# Altium integrated library King Billion Devices.IntLib: 5 symbols
Pins are listed as number, name and electrical type; pins without a type are passive.

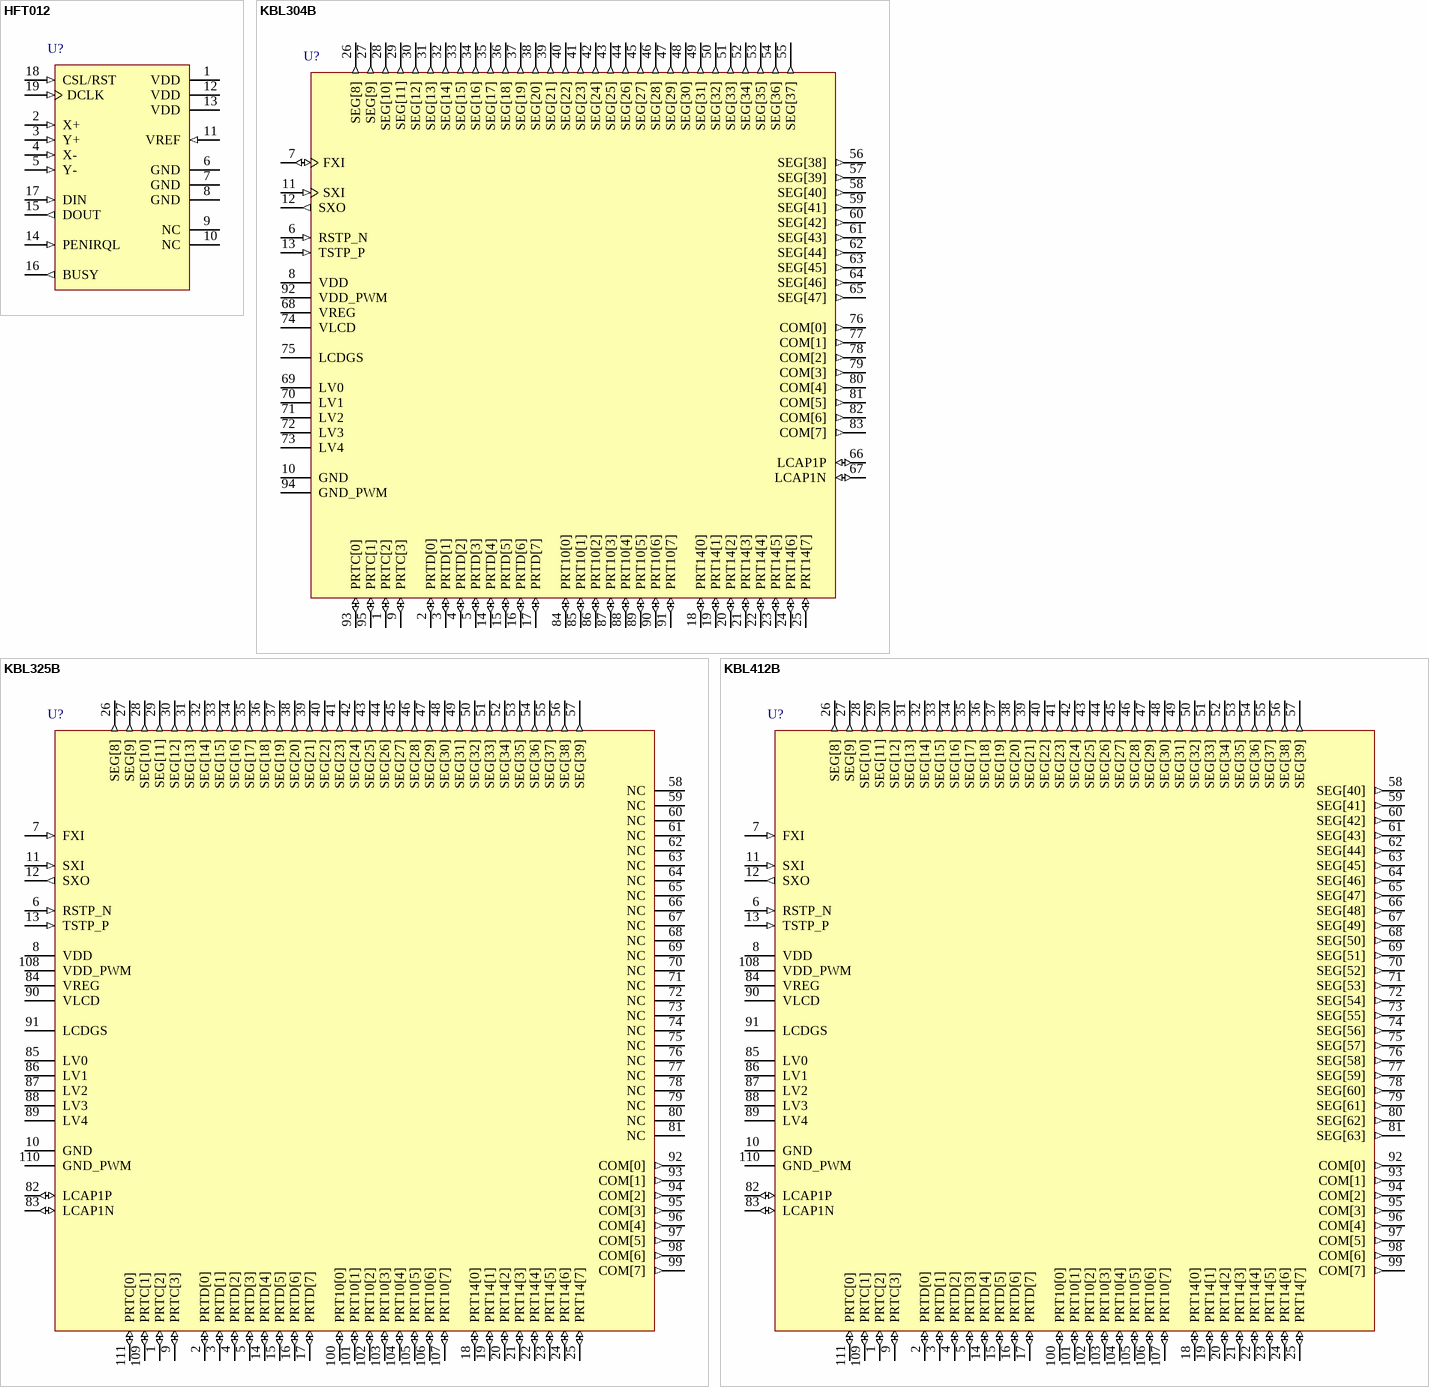
[diagram p0: symbols HFT012 to KBL412B]

## HFT012
designator U?
125KHz 1-Channel 4-Wire Touch Screen ADC, 2.4V - 5.5V range, 125KSPS Sampling Rate, Chip Form; PackageForm: Supplied as a Die.; Published: 30-Mar-2007; DatasheetVersion: Ver1.0, Aug-2003; PackageReference: Chip_Form; Publisher: Altium Limited; ComponentLink1Description: Manufacturer Link; ComponentLink1URL: http://www.kingb.com.tw/
pins: 1 VDD (power), 2 X+ (in), 3 Y+ (in), 4 X- (in), 5 Y- (in), 6 GND (power), 7 GND (power), 8 GND (power), 9 NC, 10 NC, 11 VREF (in), 12 VDD (power), 13 VDD (power), 14 PENIRQL (in), 15 DOUT (out), 16 BUSY (out), 17 DIN (in), 18 CSL/RST (in), 19 DCLK (in)

## KBL304B
designator U?
8-Bit CMOS Single Chip LCD MCU, 640 LCD Dots, Programmable LCD driver, Chip Form; PackageForm: Supplied as a Die.; Published: 30-Mar-2007; DatasheetVersion: Ver0.22, Dec-2005; PackageReference: Chip_Form; Publisher: Altium Limited; ComponentLink1Description: Manufacturer Link; ComponentLink1URL: http://www.kingb.com.tw/
pins: 1 PRTC[2] (io), 2 PRTD[0] (io), 3 PRTD[1] (io), 4 PRTD[2] (io), 5 PRTD[3] (io), 6 RSTP_N (in), 7 FXI (io), 8 VDD (power), 9 PRTC[3] (io), 10 GND (power), 11 SXI (in), 12 SXO (out), 13 TSTP_P (in), 14 PRTD[4] (io), 15 PRTD[5] (io), 16 PRTD[6] (io), 17 PRTD[7] (io), 18 PRT14[0] (io), 19 PRT14[1] (io), 20 PRT14[2] (io), 21 PRT14[3] (io), 22 PRT14[4] (io), 23 PRT14[5] (io), 24 PRT14[6] (io), 25 PRT14[7] (io), 26 SEG[8] (out), 27 SEG[9] (out), 28 SEG[10] (out), 29 SEG[11] (out), 30 SEG[12] (out), 31 SEG[13] (out), 32 SEG[14] (out), 33 SEG[15] (out), 34 SEG[16] (out), 35 SEG[17] (out), 36 SEG[18] (out), 37 SEG[19] (out), 38 SEG[20] (out), 39 SEG[21] (out), 40 SEG[22] (out), 41 SEG[23] (out), 42 SEG[24] (out), 43 SEG[25] (out), 44 SEG[26] (out), 45 SEG[27] (out), 46 SEG[28] (out), 47 SEG[29] (out), 48 SEG[30] (out), 49 SEG[31] (out), 50 SEG[32] (out), 51 SEG[33] (out), 52 SEG[34] (out), 53 SEG[35] (out), 54 SEG[36] (out), 55 SEG[37] (out), 56 SEG[38] (out), 57 SEG[39] (out), 58 SEG[40] (out), 59 SEG[41] (out), 60 SEG[42] (out), 61 SEG[43] (out), 62 SEG[44] (out), 63 SEG[45] (out), 64 SEG[46] (out), 65 SEG[47] (out), 66 LCAP1P (io), 67 LCAP1N (io), 68 VREG (power), 69 LV0 (power), 70 LV1 (power), 71 LV2 (power), 72 LV3 (power), 73 LV4 (power), 74 VLCD (power), 75 LCDGS (power), 76 COM[0] (out), 77 COM[1] (out), 78 COM[2] (out), 79 COM[3] (out), 80 COM[4] (out), 81 COM[5] (out), 82 COM[6] (out), 83 COM[7] (out), 84 PRT10[0] (io), 85 PRT10[1] (io), 86 PRT10[2] (io), 87 PRT10[3] (io), 88 PRT10[4] (io), 89 PRT10[5] (io), 90 PRT10[6] (io), 91 PRT10[7] (io), 92 VDD_PWM (power), 93 PRTC[0] (io), 94 GND_PWM (power), 95 PRTC[1] (io)

## KBL325B
designator U?
8-Bit CMOS Single Chip LCD MCU, 640 LCD Dots, Programmable LCD driver, Chip Form; PackageForm: Supplied as a Die.; Published: 30-Mar-2007; DatasheetVersion: Ver0.21, Dec-2005; PackageReference: Chip_Form; Publisher: Altium Limited; ComponentLink1Description: Manufacturer Link; ComponentLink1URL: http://www.kingb.com.tw/
pins: 1 PRTC[2] (io), 2 PRTD[0] (io), 3 PRTD[1] (io), 4 PRTD[2] (io), 5 PRTD[3] (io), 6 RSTP_N (in), 7 FXI (in), 8 VDD (power), 9 PRTC[3] (io), 10 GND (power), 11 SXI (in), 12 SXO (out), 13 TSTP_P (in), 14 PRTD[4] (io), 15 PRTD[5] (io), 16 PRTD[6] (io), 17 PRTD[7] (io), 18 PRT14[0] (io), 19 PRT14[1] (io), 20 PRT14[2] (io), 21 PRT14[3] (io), 22 PRT14[4] (io), 23 PRT14[5] (io), 24 PRT14[6] (io), 25 PRT14[7] (io), 26 SEG[8] (out), 27 SEG[9] (out), 28 SEG[10] (out), 29 SEG[11] (out), 30 SEG[12] (out), 31 SEG[13] (out), 32 SEG[14] (out), 33 SEG[15] (out), 34 SEG[16] (out), 35 SEG[17] (out), 36 SEG[18] (out), 37 SEG[19] (out), 38 SEG[20] (out), 39 SEG[21] (out), 40 SEG[22] (out), 41 SEG[23] (out), 42 SEG[24] (out), 43 SEG[25] (out), 44 SEG[26] (out), 45 SEG[27] (out), 46 SEG[28] (out), 47 SEG[29] (out), 48 SEG[30] (out), 49 SEG[31] (out), 50 SEG[32] (out), 51 SEG[33] (out), 52 SEG[34] (out), 53 SEG[35] (out), 54 SEG[36] (out), 55 SEG[37] (out), 56 SEG[38] (out), 57 SEG[39] (out), 58 NC, 59 NC, 60 NC, 61 NC, 62 NC, 63 NC, 64 NC, 65 NC, 66 NC, 67 NC, 68 NC, 69 NC, 70 NC, 71 NC, 72 NC, 73 NC, 74 NC, 75 NC, 76 NC, 77 NC, 78 NC, 79 NC, 80 NC, 81 NC, 82 LCAP1P (io), 83 LCAP1N (io), 84 VREG (power), 85 LV0 (power), 86 LV1 (power), 87 LV2 (power), 88 LV3 (power), 89 LV4 (power), 90 VLCD (power), 91 LCDGS (power), 92 COM[0] (out), 93 COM[1] (out), 94 COM[2] (out), 95 COM[3] (out), 96 COM[4] (out), 97 COM[5] (out), 98 COM[6] (out), 99 COM[7] (out), 100 PRT10[0] (io), 101 PRT10[1] (io), 102 PRT10[2] (io), 103 PRT10[3] (io), 104 PRT10[4] (io), 105 PRT10[5] (io), 106 PRT10[6] (io), 107 PRT10[7] (io), 108 VDD_PWM (power), 109 PRTC[1] (io), 110 GND_PWM (power), 111 PRTC[0] (io)

## KBL412B
designator U?
8-Bit CMOS Single Chip LCD MCU, 1024 LCD Dots, Programmable LCD driver, Chip Form; PackageForm: Supplied as a Die.; Published: 30-Mar-2007; DatasheetVersion: Ver0.21, Dec-2005; PackageReference: Chip_Form; Publisher: Altium Limited; ComponentLink1Description: Manufacturer Link; ComponentLink1URL: http://www.kingb.com.tw/
pins: 1 PRTC[2] (io), 2 PRTD[0] (io), 3 PRTD[1] (io), 4 PRTD[2] (io), 5 PRTD[3] (io), 6 RSTP_N (in), 7 FXI (in), 8 VDD (power), 9 PRTC[3] (io), 10 GND (power), 11 SXI (in), 12 SXO (out), 13 TSTP_P (in), 14 PRTD[4] (io), 15 PRTD[5] (io), 16 PRTD[6] (io), 17 PRTD[7] (io), 18 PRT14[0] (io), 19 PRT14[1] (io), 20 PRT14[2] (io), 21 PRT14[3] (io), 22 PRT14[4] (io), 23 PRT14[5] (io), 24 PRT14[6] (io), 25 PRT14[7] (io), 26 SEG[8] (out), 27 SEG[9] (out), 28 SEG[10] (out), 29 SEG[11] (out), 30 SEG[12] (out), 31 SEG[13] (out), 32 SEG[14] (out), 33 SEG[15] (out), 34 SEG[16] (out), 35 SEG[17] (out), 36 SEG[18] (out), 37 SEG[19] (out), 38 SEG[20] (out), 39 SEG[21] (out), 40 SEG[22] (out), 41 SEG[23] (out), 42 SEG[24] (out), 43 SEG[25] (out), 44 SEG[26] (out), 45 SEG[27] (out), 46 SEG[28] (out), 47 SEG[29] (out), 48 SEG[30] (out), 49 SEG[31] (out), 50 SEG[32] (out), 51 SEG[33] (out), 52 SEG[34] (out), 53 SEG[35] (out), 54 SEG[36] (out), 55 SEG[37] (out), 56 SEG[38] (out), 57 SEG[39] (out), 58 SEG[40] (out), 59 SEG[41] (out), 60 SEG[42] (out), 61 SEG[43] (out), 62 SEG[44] (out), 63 SEG[45] (out), 64 SEG[46] (out), 65 SEG[47] (out), 66 SEG[48] (out), 67 SEG[49] (out), 68 SEG[50] (out), 69 SEG[51] (out), 70 SEG[52] (out), 71 SEG[53] (out), 72 SEG[54] (out), 73 SEG[55] (out), 74 SEG[56] (out), 75 SEG[57] (out), 76 SEG[58] (out), 77 SEG[59] (out), 78 SEG[60] (out), 79 SEG[61] (out), 80 SEG[62] (out), 81 SEG[63] (out), 82 LCAP1P (io), 83 LCAP1N (io), 84 VREG (power), 85 LV0 (power), 86 LV1 (power), 87 LV2 (power), 88 LV3 (power), 89 LV4 (power), 90 VLCD (power), 91 LCDGS (power), 92 COM[0] (out), 93 COM[1] (out), 94 COM[2] (out), 95 COM[3] (out), 96 COM[4] (out), 97 COM[5] (out), 98 COM[6] (out), 99 COM[7] (out), 100 PRT10[0] (io), 101 PRT10[1] (io), 102 PRT10[2] (io), 103 PRT10[3] (io), 104 PRT10[4] (io), 105 PRT10[5] (io), 106 PRT10[6] (io), 107 PRT10[7] (io), 108 VDD_PWM (power), 109 PRTC[1] (io), 110 GND_PWM (power), 111 PRTC[0] (io)

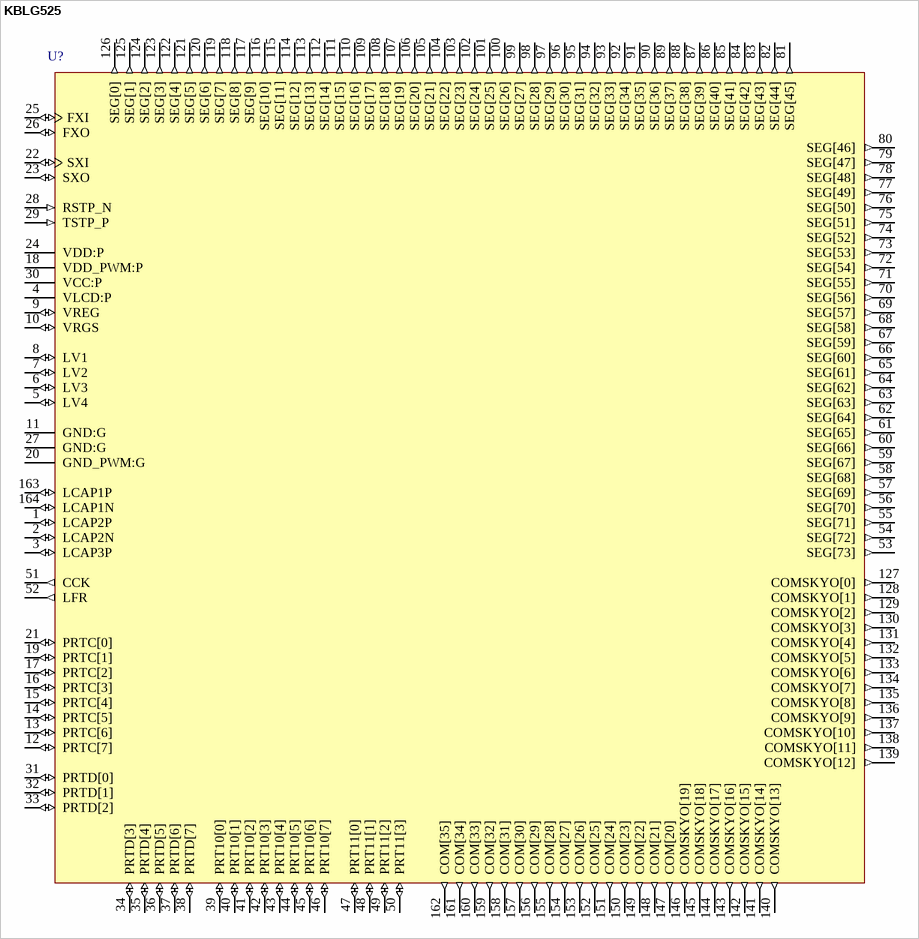
[diagram p1: symbol KBLG525]

## KBLG525
designator U?
8-Bit RISC Type LCD MCU, 2664 LCD Dots, Programmable 4 level gray-scale LCD driver, Chip Form; PackageForm: Supplied as a Die.; Published: 30-Mar-2007; DatasheetVersion: Ver0.40, Sep-2005; PackageReference: Chip_Form; Publisher: Altium Limited; ComponentLink1Description: Manufacturer Link; ComponentLink1URL: http://www.kingb.com.tw/
pins: 1 LCAP2P (io), 2 LCAP2N (io), 3 LCAP3P (io), 4 VLCD:P (power), 5 LV4 (io), 6 LV3 (io), 7 LV2 (io), 8 LV1 (io), 9 VREG (io), 10 VRGS (io), 11 GND:G (power), 12 PRTC[7] (io), 13 PRTC[6] (io), 14 PRTC[5] (io), 15 PRTC[4] (io), 16 PRTC[3] (io), 17 PRTC[2] (io), 18 VDD_PWM:P (power), 19 PRTC[1] (io), 20 GND_PWM:G (power), 21 PRTC[0] (io), 22 SXI (io), 23 SXO (io), 24 VDD:P (power), 25 FXI (io), 26 FXO (io), 27 GND:G (power), 28 RSTP_N (in), 29 TSTP_P (in), 30 VCC:P (power), 31 PRTD[0] (io), 32 PRTD[1] (io), 33 PRTD[2] (io), 34 PRTD[3] (io), 35 PRTD[4] (io), 36 PRTD[5] (io), 37 PRTD[6] (io), 38 PRTD[7] (io), 39 PRT10[0] (io), 40 PRT10[1] (io), 41 PRT10[2] (io), 42 PRT10[3] (io), 43 PRT10[4] (io), 44 PRT10[5] (io), 45 PRT10[6] (io), 46 PRT10[7] (io), 47 PRT11[0] (io), 48 PRT11[1] (io), 49 PRT11[2] (io), 50 PRT11[3] (io), 51 CCK (out), 52 LFR (out), 53 SEG[73] (out), 54 SEG[72] (out), 55 SEG[71] (out), 56 SEG[70] (out), 57 SEG[69] (out), 58 SEG[68] (out), 59 SEG[67] (out), 60 SEG[66] (out), 61 SEG[65] (out), 62 SEG[64] (out), 63 SEG[63] (out), 64 SEG[62] (out), 65 SEG[61] (out), 66 SEG[60] (out), 67 SEG[59] (out), 68 SEG[58] (out), 69 SEG[57] (out), 70 SEG[56] (out), 71 SEG[55] (out), 72 SEG[54] (out), 73 SEG[53] (out), 74 SEG[52] (out), 75 SEG[51] (out), 76 SEG[50] (out), 77 SEG[49] (out), 78 SEG[48] (out), 79 SEG[47] (out), 80 SEG[46] (out), 81 SEG[45] (out), 82 SEG[44] (out), 83 SEG[43] (out), 84 SEG[42] (out), 85 SEG[41] (out), 86 SEG[40] (out), 87 SEG[39] (out), 88 SEG[38] (out), 89 SEG[37] (out), 90 SEG[36] (out), 91 SEG[35] (out), 92 SEG[34] (out), 93 SEG[33] (out), 94 SEG[32] (out), 95 SEG[31] (out), 96 SEG[30] (out), 97 SEG[29] (out), 98 SEG[28] (out), 99 SEG[27] (out), 100 SEG[26] (out), 101 SEG[25] (out), 102 SEG[24] (out), 103 SEG[23] (out), 104 SEG[22] (out), 105 SEG[21] (out), 106 SEG[20] (out), 107 SEG[19] (out), 108 SEG[18] (out), 109 SEG[17] (out), 110 SEG[16] (out), 111 SEG[15] (out), 112 SEG[14] (out), 113 SEG[13] (out), 114 SEG[12] (out), 115 SEG[11] (out), 116 SEG[10] (out), 117 SEG[9] (out), 118 SEG[8] (out), 119 SEG[7] (out), 120 SEG[6] (out), 121 SEG[5] (out), 122 SEG[4] (out), 123 SEG[3] (out), 124 SEG[2] (out), 125 SEG[1] (out), 126 SEG[0] (out), 127 COMSKYO[0] (out), 128 COMSKYO[1] (out), 129 COMSKYO[2] (out), 130 COMSKYO[3] (out), 131 COMSKYO[4] (out), 132 COMSKYO[5] (out), 133 COMSKYO[6] (out), 134 COMSKYO[7] (out), 135 COMSKYO[8] (out), 136 COMSKYO[9] (out), 137 COMSKYO[10] (out), 138 COMSKYO[11] (out), 139 COMSKYO[12] (out), 140 COMSKYO[13] (out), 141 COMSKYO[14] (out), 142 COMSKYO[15] (out), 143 COMSKYO[16] (out), 144 COMSKYO[17] (out), 145 COMSKYO[18] (out), 146 COMSKYO[19] (out), 147 COM[20] (out), 148 COM[21] (out), 149 COM[22] (out), 150 COM[23] (out), 151 COM[24] (out), 152 COM[25] (out), 153 COM[26] (out), 154 COM[27] (out), 155 COM[28] (out), 156 COM[29] (out), 157 COM[30] (out), 158 COM[31] (out), 159 COM[32] (out), 160 COM[33] (out), 161 COM[34] (out), 162 COM[35] (out), 163 LCAP1P (io), 164 LCAP1N (io)